# Altium schematic symbol library SI2302CDS-T1-GE3.SchLib: 1 symbol
Pins are listed as number, name and electrical type; pins without a type are passive.

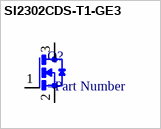
[diagram p0: symbol SI2302CDS-T1-GE3]

## SI2302CDS-T1-GE3
designator Q?
=Description
pins: 1 G, 2 S, 3 D